# EAGLE library part BMG250 (library circuit_tree)
IC
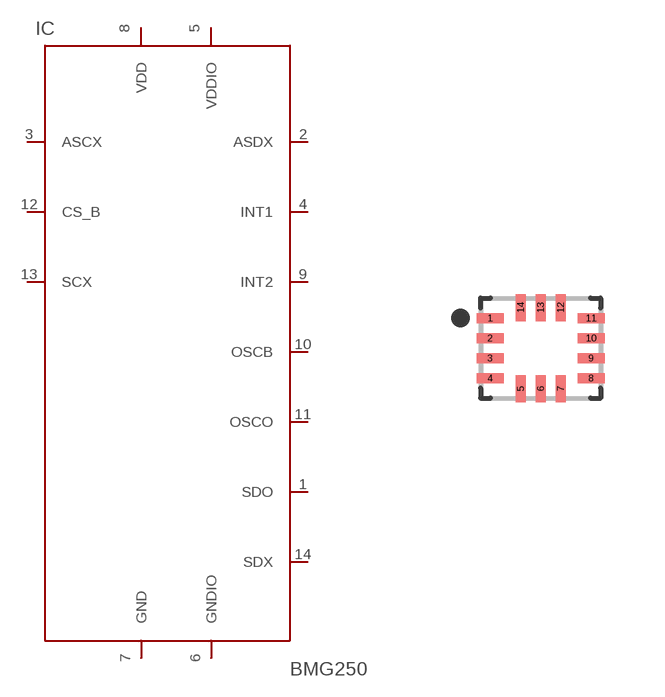
[diagram p1: symbol with the pads of LGA-14; footprint LGA-14]

Designator prefix IC

## BMG250  [LGA-14]
1  SDO  pas
2  ASDX  pas
3  ASCX  pas
4  INT1  pas
5  VDDIO  pas
6  GNDIO  pas
7  GND  pas
8  VDD  pas
9  INT2  pas
10  OSCB  pas
11  OSCO  pas
12  CS_B  pas
13  SCX  pas
14  SDX  pas

## Footprint LGA-14 (pad centres in mm)
smd 0.675 x 0.25: 1 -1.262,0.75; 2 -1.262,0.25; 3 -1.262,-0.25; 4 -1.262,-0.75; 8 1.262,-0.75; 9 1.262,-0.25; 10 1.262,0.25; 11 1.262,0.75
smd 0.25 x 0.675: 5 -0.5,-1.012; 6 0,-1.012; 7 0.5,-1.012; 12 0.5,1.012; 13 0,1.012; 14 -0.5,1.012